# EAGLE library part MCP2120 (library untitled)
Infrared Encoder/Decoder
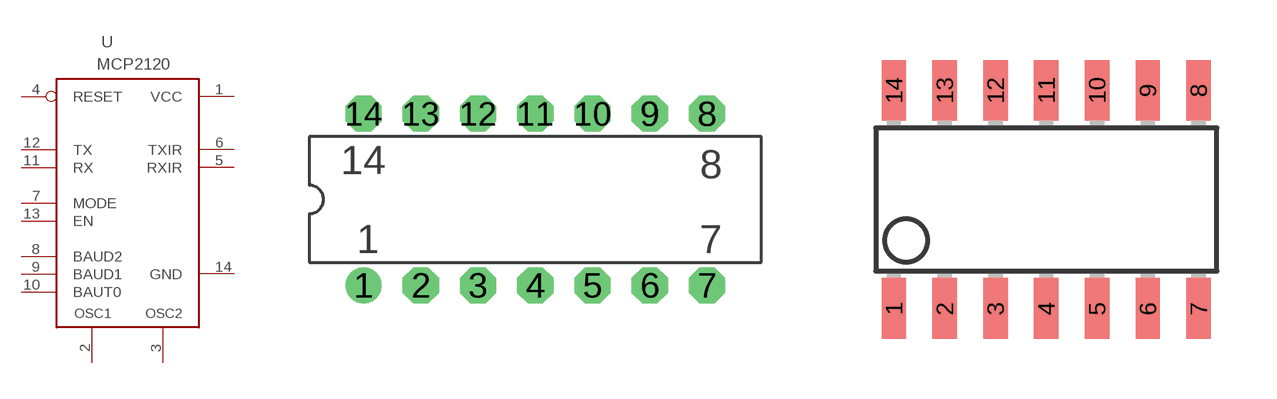
[diagram p0: symbol with the pads of DIL14; footprints DIL14, SO-14]

Designator prefix -

## MCP2120-P  [DIL14]
1  VCC  pwr
2  OSC1  in
3  OSC2  out
4  RESET
5  RXIR  in
6  TXIR  out
7  MODE  in
8  BAUD2  in
9  BAUD1  in
10  BAUT0  in
11  RX  out
12  TX  in
13  EN  in
14  GND  pwr

## MCP2120-SL  [SO-14]
Pads as for DIL14

## Footprint DIL14 (pad centres in mm)
drill 0.813 pad 1.6 round: 1 -7.62,-3.81
drill 0.813 pad 1.6 octagon: 2 -5.08,-3.81; 3 -2.54,-3.81; 4 0,-3.81; 5 2.54,-3.81; 6 5.08,-3.81; 7 7.62,-3.81; 8 7.62,3.81; 9 5.08,3.81; 10 2.54,3.81; 11 0,3.81; 12 -2.54,3.81; 13 -5.08,3.81; 14 -7.62,3.81

## Footprint SO-14 (pad centres in mm)
smd 0.61 x 1.524: 1 -3.81,-2.794; 2 -2.54,-2.794; 3 -1.27,-2.794; 4 0,-2.794; 5 1.27,-2.794; 6 2.54,-2.794; 7 3.81,-2.794; 8 3.81,2.667; 9 2.54,2.667; 10 1.27,2.667; 11 0,2.667; 12 -1.27,2.667; 13 -2.54,2.667; 14 -3.81,2.667